# EAGLE library part LM311P (library IMMERSE)
Single comparator,LM311P 165ns DIP8 LM311P, Comparator Open Collector/Emitter 0.165us 12 V, 15 V, 18 V, 24 V, 28 V, 5 V, 9 V 8-Pin PDIP Source: Datasheet <http://www.ti.com/lit/ds/symlink/lm311.pdf>
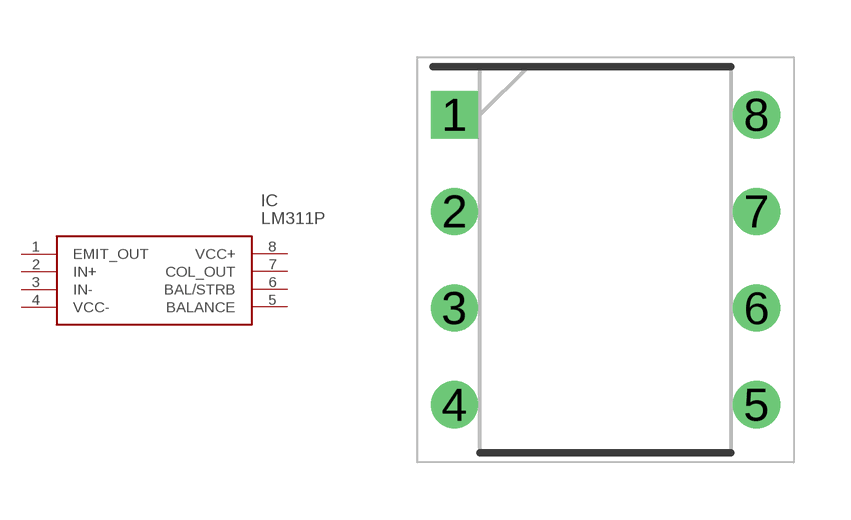
[diagram p1: symbol with the pads of DIP794W53P254L959H508Q8N; footprint DIP794W53P254L959H508Q8N]

Designator prefix IC

## LM311P (DESCRIPTION: Single comparator,LM311P 165ns DIP8 LM311P, Comparator Open Collector/Emitter 0.165us 12 V, 15 V, 18 V, 24 V, 28 V, 5 V, 9 V 8-Pin PDIP; HEIGHT: 5.08mm; MANUFACTURER_NAME: Texas Instruments; MANUFACTURER_PART_NUMBER: LM311P; MOUSER_PART_NUMBER: 595-LM311P; MOUSER_PRICE-STOCK: https://www.mouser.co.uk/ProductDetail/Texas-Instruments/LM311P?qs=0OT4q4QBUTKsKDe9sMZxLw%3D%3D)  [DIP794W53P254L959H508Q8N]
1  EMIT_OUT
2  IN+
3  IN-
4  VCC-
5  BALANCE
6  BAL/STRB
7  COL_OUT
8  VCC+

## Footprint DIP794W53P254L959H508Q8N (pad centres in mm)
PDIP_P
drill 0.73 pad 1.13 square: 1 -3.97,3.81
drill 0.73 pad 1.13: 2 -3.97,1.27; 3 -3.97,-1.27; 4 -3.97,-3.81; 5 3.97,-3.81; 6 3.97,-1.27; 7 3.97,1.27; 8 3.97,3.81